# EAGLE library part TPS77XXX (library parts)
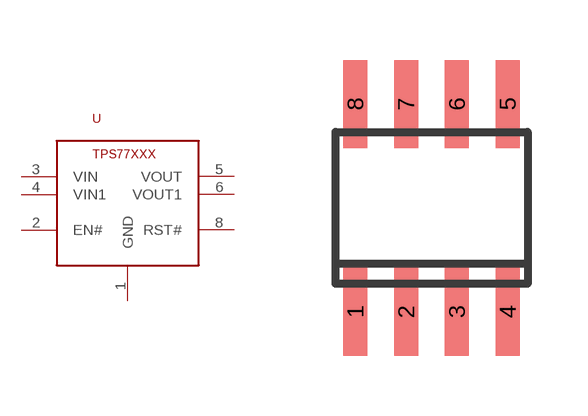
[diagram p4: symbol with the pads of SO08; footprint SO08]

Designator prefix -

## TPS77XXXD  [SO08]
1  GND  pas
2  EN#  in
3  VIN  pas
4  VIN1  pas
5  VOUT  pas
6  VOUT1  pas
8  RST#  out

## Footprint SO08 (pad centres in mm)
SMALL OUTLINE INTEGRATED CIRCUIT body 3.9 mm/JEDEC MS-012AA
smd 0.6 x 2.2: 1 -1.905,-2.6; 2 -0.635,-2.6; 3 0.635,-2.6; 4 1.905,-2.6; 5 1.905,2.6; 6 0.635,2.6; 7 -0.635,2.6; 8 -1.905,2.6